# Altium footprint library Relay.PcbLib: 10 footprints
Each footprint in its own frame and in the unit in brackets; x right, y up, seen from the top. Pads: shape width x height; smd on the part's side, far side on the other; paste and mask are expansions set on the pad; w line width, h text height; cw(c..) or ccw(c..) is an arc to the next point about the centre after c.
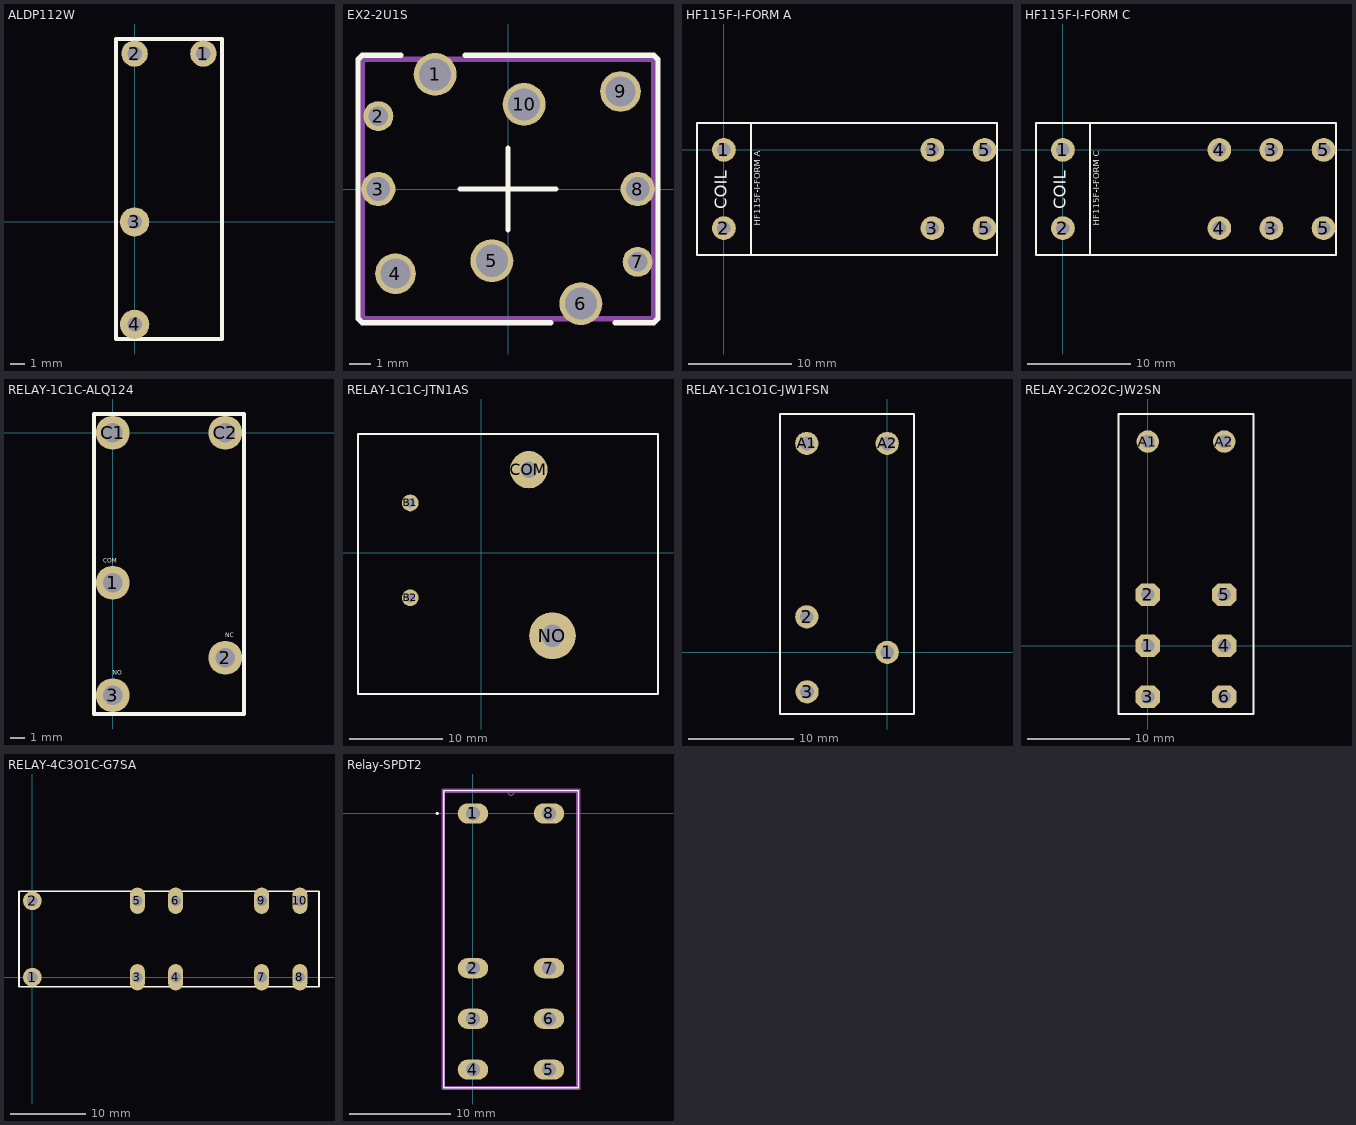
[diagram p0: the footprints below, top view; thin cyan lines are the x and y axes]

## ALDP112W [mm]
pads (4):
  round 1.8 hole 1: 1(4.7,11.5) 2(0,11.5)
  round 2 hole 1: 3(0,0) 4(0,-7)
Top Overlay:
  lines w0.254: -1.27,-8 -1.27,12.5 ; -1.25,-8 5.95,-8 ; -1.25,12.5 5.95,12.5 ; 5.969,-8 5.969,12.5
3D body "_DIP_RELAY_1C1C_ALD124.STEP": height 14.76, standoff -3.14, extent -1.15,-7.763 5.85,12.537

## EX2-2U1S [mm]
height 13.7
pads (10):
  round 2 hole 1.5 unplated: 1(-3.4,5.35) 5(-0.75,-3.35) 6(3.4,-5.35) 10(0.75,3.95)
  round 1.4 hole 0.9 unplated: 2(-6.05,3.4) 7(6.05,-3.4)
  round 1.6 hole 1.1 unplated: 3(-6.05,0) 8(6.05,0)
  round 1.9 hole 1.4 unplated: 4(-5.25,-3.95) 9(5.25,4.55)
Top Overlay:
  lines w0.254: -5,6.25 -6.8,6.25 -7,6.05 -7,-6.05 -6.8,-6.25 2,-6.25 ; -2.222,0 2.222,0 ; -2,6.25 6.8,6.25 7,6.05 7,-6.05 6.8,-6.25 5,-6.25 ; 0,-1.905 0,1.905
Mechanical 15:
  lines w0.254: -6.8,-6.05 6.8,-6.05 6.8,6.05 -6.8,6.05 -6.8,-6.05
3D body "EX2-2U1S.stp": height 13.8, standoff -5, extent -6.8,-6.05 6.8,6.05

## HF115F-I-FORM A [mm]
pads (6):
  round 2.3 hole 1.3: 1(0,0) 2(0,-7.56) 3(20.16,-7.56) 3(20.16,0) 5(25.2,-7.56) 5(25.2,0)
Top Overlay:
  lines w0.2: 2.6,-10.16 2.6,2.6 ; -2.6,-10.16 -2.6,2.6 26.4,2.6 26.4,-10.16 -2.6,-10.16
  text "HF115F-I-FORM A" at 3.7,-7.344 h1
  text "COIL" at 0.641,-5.732 h2
3D body "JQX-115F HF115F.step": height 15.8, standoff -3.3, extent -2.6,-10.15 26.4,2.55

## HF115F-I-FORM C [mm]
pads (8):
  round 2.3 hole 1.3: 1(0,0) 2(0,-7.56) 3(20.16,-7.56) 3(20.16,0) 4(15.12,-7.56) 4(15.12,0) 5(25.2,-7.56) 5(25.2,0)
Top Overlay:
  lines w0.2: 2.6,-10.16 2.6,2.6 ; -2.6,-10.16 26.4,-10.16 26.4,2.6 -2.6,2.6 -2.6,-10.16
  text "COIL" at 0.641,-5.732 h2
  text "HF115F-I-FORM C" at 3.7,-7.344 h1
3D body "JQX-115F HF115F.step": height 15.8, standoff -3.3, extent -2.6,-10.15 26.4,2.55

## RELAY-1C1C-ALQ124 [mm]
pads (5):
  round 2.3 hole 1.3: 1(0,-10.16) 2(7.62,-15.24) 3(0,-17.78) C1(0,0) C2(7.62,0)
Top Overlay:
  lines w0.254: -1.27,-19.05 8.89,-19.05 8.89,1.27 -1.27,1.27 -1.27,-19.05
  text "NC" at 7.62,-13.97 h0.51
  text "NO" at 0,-16.51 h0.51
  text "COM" at -0.635,-8.89 h0.51
3D body "panasonic_ALQ1.step": height 15.6, standoff -4.2, extent -1.19,-18.89 8.81,1.11

## RELAY-1C1C-JTN1AS [mm]
pads (4):
  round 1.8 hole 1: B1(-7.62,5.334) B2(-7.62,-4.826)
  round 4 hole 1.8: COM(5.08,8.89)
  round 5 hole 2.4: NO(7.62,-8.89)
Top Overlay:
  lines w0.2: -13.208,-4.866 -13.208,-15.113 18.923,-15.113 18.923,12.7 15.113,12.7 -13.208,12.7 -13.208,5.334 -13.208,-4.826
3D body "_DIP_RELAY_1C1C_JTN1AS.STEP": height 2.5, standoff -29, extent -13.589,-14.97 18.611,12.43

## RELAY-1C1O1C-JW1FSN [mm]
pads (5):
  round 2.2 hole 1.3: 1(0,-0.038) 2(-7.62,3.34) 3(-7.595,-3.772) A1(-7.62,19.774) A2(0,19.774)
Top Overlay:
  lines w0.2: -10.16,-5.878 -10.16,22.568 2.54,22.568 2.54,-5.878 -10.16,-5.878
3D body "_DIP_RELAY_1C1C10_JW1FSN.STEP": height 20, standoff -4, extent -10.21,-5.994 2.59,22.606

## RELAY-2C2O2C-JW2SN [mm]
pads (8):
  oct 2.4x2.2 hole 1.3: 1(0,0) 2(0,5) 3(0,-5) 4(7.5,0) 5(7.5,5) 6(7.5,-5)
  round 2.2 hole 1.3: A1(0,20) A2(7.5,20)
Top Overlay:
  lines w0.2: -2.85,-6.7 -2.85,22.7 10.35,22.7 10.35,-6.7 -2.85,-6.7
3D body "_DIP_RELAY_2C2O2C_JW2SN.STEP": height 20, standoff -4, extent -2.727,-5.871 10.073,22.729

## RELAY-4C3O1C-G7SA [mm]
pads (10):
  round 2.5 hole 1.4: 1(0,0) 2(0,10.16)
  oval 2x3.5 hole 1.4: 3(13.97,0) 4(19.05,0) 5(13.97,10.16) 6(19.05,10.16) 7(30.48,0) 8(35.56,0) 9(30.48,10.16) 10(35.56,10.16)
Top Overlay:
  lines w0.2: -1.778,-1.27 38.1,-1.27 38.1,11.43 -1.778,11.43 -1.778,-1.238
3D body "_DIP_RELAY_4C3O1C_G7SA.STEP": height 24, standoff -3.5, extent -1.839,-1.316 38.161,11.684

## Relay-SPDT2 [mm]
pads (8):
  oval 3x2 hole 1.4 mask+0: 1(0,0) 2(0,-15.24) 3(0,-20.24) 4(0,-25.24) 5(7.493,-25.24) 6(7.493,-20.24) 7(7.493,-15.24) 8(7.493,0)
Top Overlay:
  circle w0.152: c-3.516,0 r0.076
  lines w0.152: -2.883,-27.026 -2.883,2.235 10.376,2.235 10.376,-27.026 -2.883,-27.026
Mechanical 13:
  circle w0: c0.914,0 r0.076
  lines w0: 3.442,2.108 ccw(c3.746,2.108) 4.051,2.108
  lines w0.025: -2.756,-26.899 -2.756,2.108 10.249,2.108 10.249,-26.899 -2.756,-26.899
Mechanical 15:
  lines w0.152: -3.01,-27.153 10.503,-27.153 10.503,2.362 -3.01,2.362 -3.01,-27.153
3D body "RELAY_G2R-1-E_OMR.step": height 25.5, standoff -2.54, extent -2.756,-26.899 10.249,2.108
3D body: height 0.25, standoff 0, extent 0,0 0.254,0.254